# EAGLE library part 10164227-1001A1RLF (library ds_con)
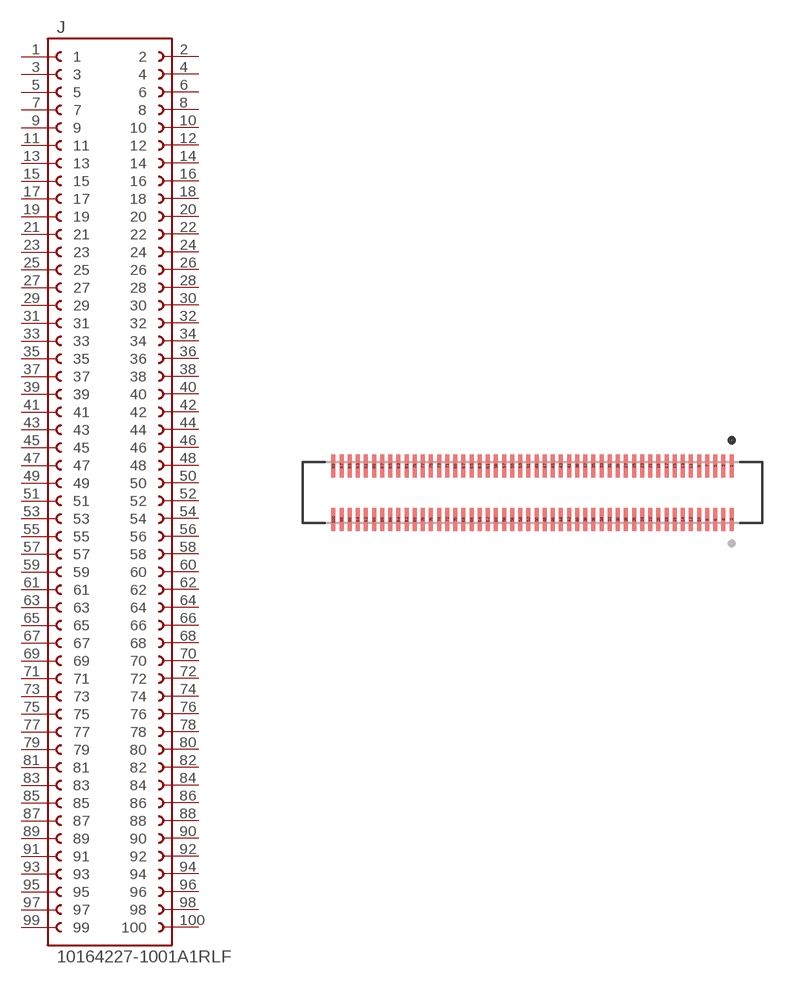
[diagram p4: symbol with the pads of AMPHENOL_10164227-1001A1RLF; footprint AMPHENOL_10164227-1001A1RLF]

Designator prefix J

## 10164227-1001A1RLF (MANUFACTURER: Amphenol; MAXIMUM_PACKAGE_HEIGHT: 4.1mm; PARTREV: C; STANDARD: Manufacturer Recommendations)  [AMPHENOL_10164227-1001A1RLF]
1  1  pas
2  2  pas
3  3  pas
4  4  pas
5  5  pas
6  6  pas
7  7  pas
8  8  pas
9  9  pas
10  10  pas
11  11  pas
12  12  pas
13  13  pas
14  14  pas
15  15  pas
16  16  pas
17  17  pas
18  18  pas
19  19  pas
20  20  pas
21  21  pas
22  22  pas
23  23  pas
24  24  pas
25  25  pas
26  26  pas
27  27  pas
28  28  pas
29  29  pas
30  30  pas
31  31  pas
32  32  pas
33  33  pas
34  34  pas
35  35  pas
36  36  pas
37  37  pas
38  38  pas
39  39  pas
40  40  pas
41  41  pas
42  42  pas
43  43  pas
44  44  pas
45  45  pas
46  46  pas
47  47  pas
48  48  pas
49  49  pas
50  50  pas
51  51  pas
52  52  pas
53  53  pas
54  54  pas
55  55  pas
56  56  pas
57  57  pas
58  58  pas
59  59  pas
60  60  pas
61  61  pas
62  62  pas
63  63  pas
64  64  pas
65  65  pas
66  66  pas
67  67  pas
68  68  pas
69  69  pas
70  70  pas
71  71  pas
72  72  pas
73  73  pas
74  74  pas
75  75  pas
76  76  pas
77  77  pas
78  78  pas
79  79  pas
80  80  pas
81  81  pas
82  82  pas
83  83  pas
84  84  pas
85  85  pas
86  86  pas
87  87  pas
88  88  pas
89  89  pas
90  90  pas
91  91  pas
92  92  pas
93  93  pas
94  94  pas
95  95  pas
96  96  pas
97  97  pas
98  98  pas
99  99  pas
100  100  pas

## Footprint AMPHENOL_10164227-1001A1RLF (pad centres in mm)
smd 0.2 x 1.14: 1 9.8,1.32; 2 9.8,-1.32; 3 9.4,1.32; 4 9.4,-1.32; 5 9,1.32; 6 9,-1.32; 7 8.6,1.32; 8 8.6,-1.32; 9 8.2,1.32; 10 8.2,-1.32; 11 7.8,1.32; 12 7.8,-1.32; 13 7.4,1.32; 14 7.4,-1.32; 15 7,1.32; 16 7,-1.32; 17 6.6,1.32; 18 6.6,-1.32; 19 6.2,1.32; 20 6.2,-1.32; 21 5.8,1.32; 22 5.8,-1.32; 23 5.4,1.32; 24 5.4,-1.32; 25 5,1.32; 26 5,-1.32; 27 4.6,1.32; 28 4.6,-1.32; 29 4.2,1.32; 30 4.2,-1.32; 31 3.8,1.32; 32 3.8,-1.32; 33 3.4,1.32; 34 3.4,-1.32; 35 3,1.32; 36 3,-1.32; 37 2.6,1.32; 38 2.6,-1.32; 39 2.2,1.32; 40 2.2,-1.32; 41 1.8,1.32; 42 1.8,-1.32; 43 1.4,1.32; 44 1.4,-1.32; 45 1,1.32; 46 1,-1.32; 47 0.6,1.32; 48 0.6,-1.32; 49 0.2,1.32; 50 0.2,-1.32; 51 -0.2,1.32; 52 -0.2,-1.32; 53 -0.6,1.32; 54 -0.6,-1.32; 55 -1,1.32; 56 -1,-1.32; 57 -1.4,1.32; 58 -1.4,-1.32; 59 -1.8,1.32; 60 -1.8,-1.32; 61 -2.2,1.32; 62 -2.2,-1.32; 63 -2.6,1.32; 64 -2.6,-1.32; 65 -3,1.32; 66 -3,-1.32; 67 -3.4,1.32; 68 -3.4,-1.32; 69 -3.8,1.32; 70 -3.8,-1.32; 71 -4.2,1.32; 72 -4.2,-1.32; 73 -4.6,1.32; 74 -4.6,-1.32; 75 -5,1.32; 76 -5,-1.32; 77 -5.4,1.32; 78 -5.4,-1.32; 79 -5.8,1.32; 80 -5.8,-1.32; 81 -6.2,1.32; 82 -6.2,-1.32; 83 -6.6,1.32; 84 -6.6,-1.32; 85 -7,1.32; 86 -7,-1.32; 87 -7.4,1.32; 88 -7.4,-1.32; 89 -7.8,1.32; 90 -7.8,-1.32; 91 -8.2,1.32; 92 -8.2,-1.32; 93 -8.6,1.32; 94 -8.6,-1.32; 95 -9,1.32; 96 -9,-1.32; 97 -9.4,1.32; 98 -9.4,-1.32; 99 -9.8,1.32; 100 -9.8,-1.32